# EAGLE library part MC10H101PG (library on-semiconductor-01)
Quad OR/NOR Gate
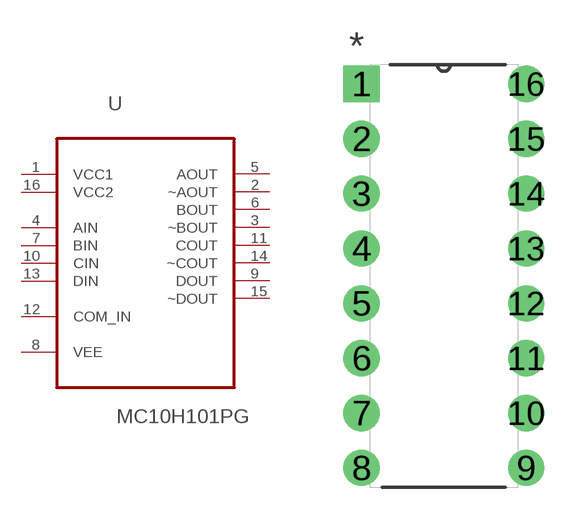
[diagram p178: symbol with the pads of DIP254P762X444-16; footprint DIP254P762X444-16]

Designator prefix U

## MC10H101PG (MPN: MC10H101PG; OC_FARNELL: 1354350; OC_NEWARK: 45J0861; PACKAGE: PDIP-16; SUPPLIER: On semiconductors)  [DIP254P762X444-16]
1  VCC1  pwr
2  ~AOUT  out
3  ~BOUT  out
4  AIN  in
5  AOUT  out
6  BOUT  out
7  BIN  in
8  VEE  pwr
9  DOUT  out
10  CIN  in
11  COUT  out
12  COM_IN  in
13  DIN  in
14  ~COUT  out
15  ~DOUT  out
16  VCC2  pwr

## Footprint DIP254P762X444-16 (pad centres in mm)
drill 1.118 square: 1 -7.62,17.78
drill 1.118: 2 -7.62,15.24; 3 -7.62,12.7; 4 -7.62,10.16; 5 -7.62,7.62; 6 -7.62,5.08; 7 -7.62,2.54; 8 -7.62,0; 9 0,0; 10 0,2.54; 11 0,5.08; 12 0,7.62; 13 0,10.16; 14 0,12.7; 15 0,15.24; 16 0,17.78